# Altium integrated library WE-VE ULC ESD Suppressor.IntLib: 3 symbols
Pins are listed as number, name and electrical type; pins without a type are passive.

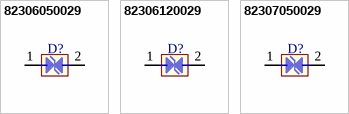
[diagram p0: symbols 82306050029 to 82307050029]

## 82306050029
designator D?
ESD Suppressor WE-VE-ULC, VDC=5.0V; PartNumber: 82306050029; Reverse Stand Off Voltage: 5.0V; PackageReference: 0603; ComponentLink1Description: Manufacturer URL; ComponentLink1URL: http://www.we-online.com; ComponentLink2Description: Datasheet; ComponentLink2URL: http://katalog.we-online.de/kataloge/eisos/media/pdf/82306050029.pdf
footprint 0603 (0603, 2-Leads, Body 3.6x1.4mm, Pitch 2.3mm)
pins: 1 I/O1, 2 I/O2

## 82306120029
designator D?
ESD Suppressor WE-VE-ULC, VDC=12.0V; PartNumber: 82306120029; Reverse Stand Off Voltage: 12.0V; PackageReference: 0603; ComponentLink1Description: Manufacturer URL; ComponentLink1URL: http://www.we-online.com; ComponentLink2Description: Datasheet; ComponentLink2URL: http://katalog.we-online.de/kataloge/eisos/media/pdf/82306120029.pdf
footprint 0603 (0603, 2-Leads, Body 3.6x1.4mm, Pitch 2.3mm)
pins: 1 I/O1, 2 I/O2

## 82307050029
designator D?
ESD Suppressor WE-VE-ULC, VDC=5.0V; PartNumber: 82307050029; Reverse Stand Off Voltage: 5.0V; PackageReference: 0402; ComponentLink1Description: Manufacturer URL; ComponentLink1URL: http://www.we-online.com; ComponentLink2Description: Datasheet; ComponentLink2URL: http://katalog.we-online.de/kataloge/eisos/media/pdf/82307050029.pdf
footprint 0402 (0402, 2-Leads, Body 2.3x0.7mm, Pitch 1.4mm)
pins: 1 I/O1, 2 I/O2